# Altium schematic symbol library C14663.SchLib: 1 symbol
Pins are listed as number, name and electrical type; pins without a type are passive.

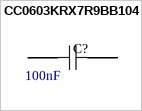
[diagram p0: symbol CC0603KRX7R9BB104]

## CC0603KRX7R9BB104
designator C?  value 100nF  (hidden comment: CC0603KRX7R9BB104)
100nF ±10% 50V Ceramic Capacitor X7R 0603; Name: C14663; Source: LCSC
footprint C0603 (1uF ±10% 50V Ceramic Capacitor X5R 0603)
pins: 1, 2